# Altium footprint library PcbLib1.1.PcbLib: 79 footprints (part 5 of 5)
Each footprint in its own frame and in the unit in brackets; x right, y up, seen from the top. Pads: shape width x height; smd on the part's side, far side on the other; paste and mask are expansions set on the pad; w line width, h text height; cw(c..) or ccw(c..) is an arc to the next point about the centre after c.
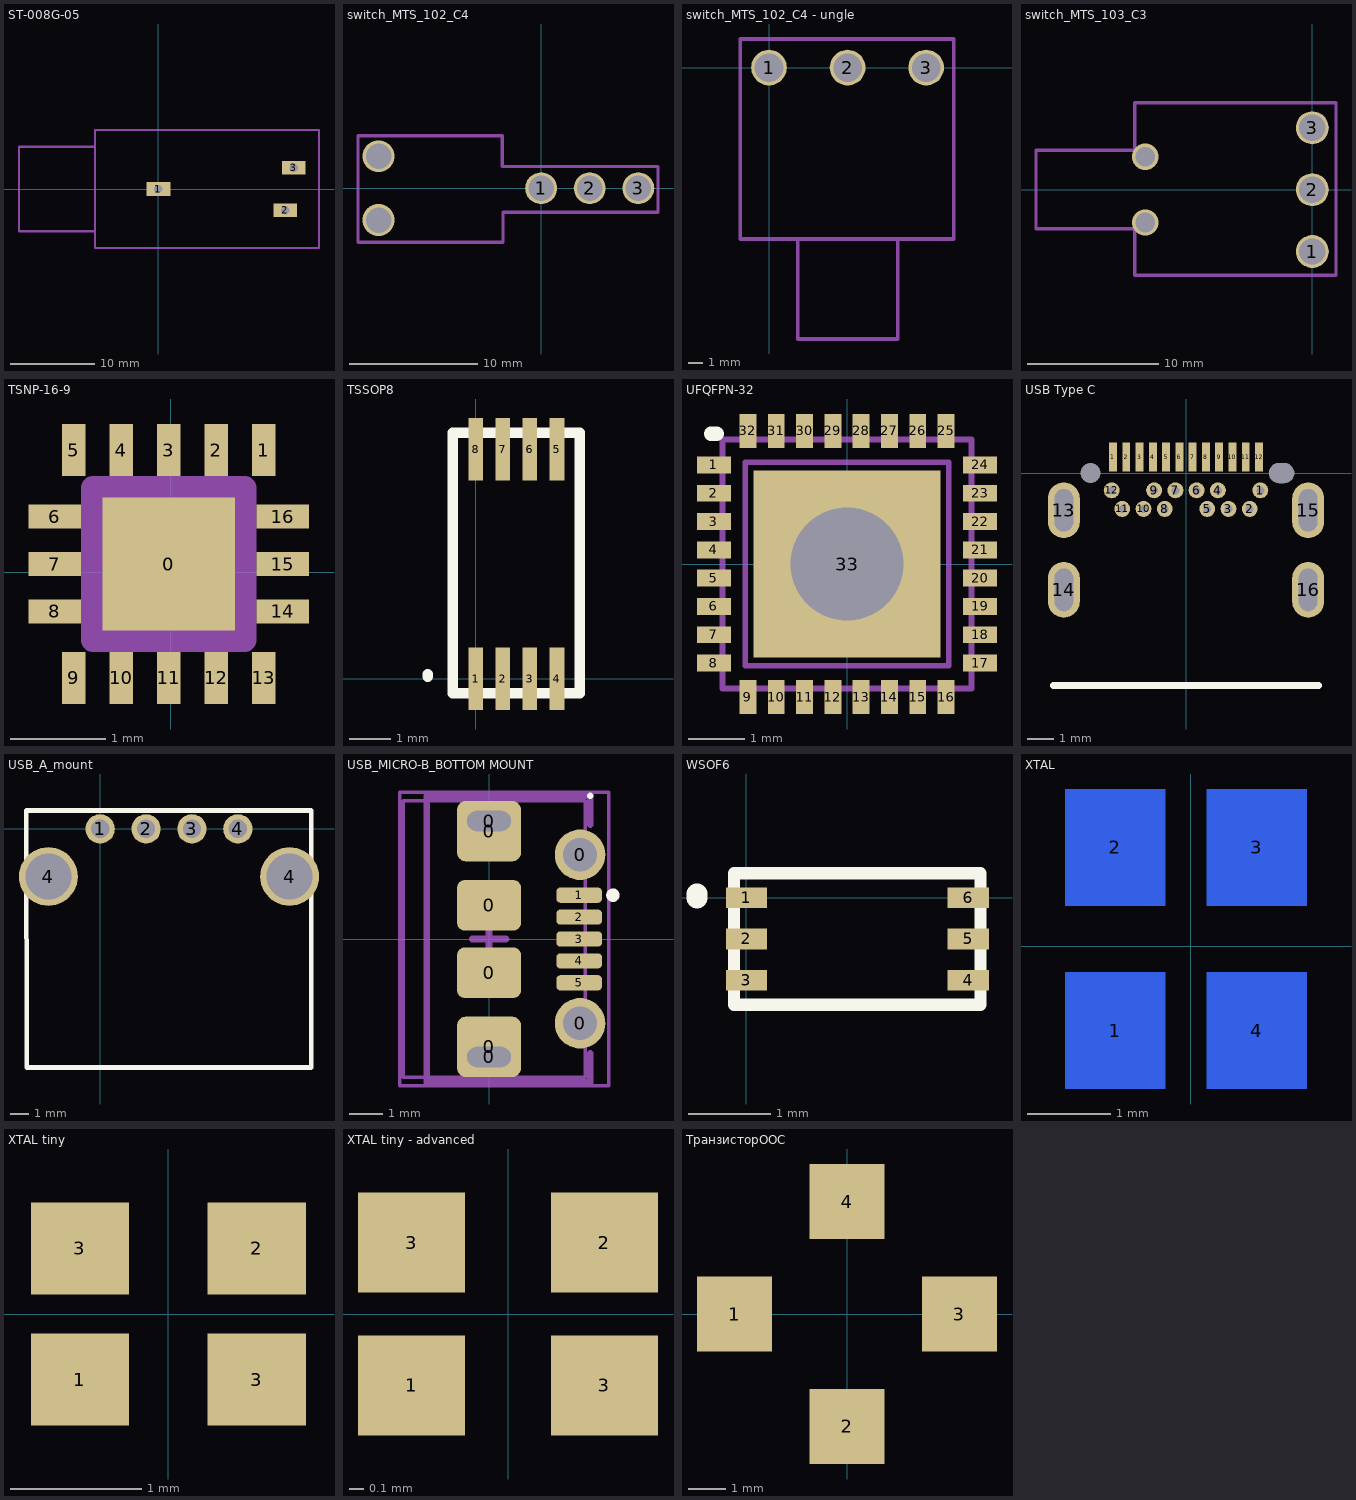
[diagram p4: the footprints below, top view; thin cyan lines are the x and y axes]

## ST-008G-05 [mm]
height 10
pads (3):
  rect 2.8x1.6 hole 1 square: 1(0,0) 2(15,-2.5) 3(16,2.5)
Mechanical 15:
  lines w0.254: -7.5,-5 -16.5,-5 -16.5,5 -7.5,5 ; -7.5,-7 19,-7 19,7 -7.5,7 -7.5,-7

## switch_MTS_102_C4 [mm]
height 13.2
pads (3):
  round 2.5 hole 2: 1(0,0) 2(3.8,0) 3(7.6,0)
via -12.7,-2.5 diameter 2.5 hole 2
via -12.7,2.5 diameter 2.5 hole 2
Mechanical 15:
  lines w0.25: -14.32,4 -14.32,-4.22 -2.99,-4.22 -2.99,-1.88 9.14,-1.88 9.14,1.29 9.14,1.69 -3.04,1.69 -3.04,4.1 -14.32,4.1

## switch_MTS_102_C4 - ungle [mm]
height 13.2
pads (3):
  round 2.5 hole 2: 1(0,0) 2(5.5,0) 3(11,0)
Mechanical 15:
  lines w0.25: 2,-12 2,-19 8,-19 9,-19 9,-12 ; -2,-12 -2,2 8.83,2 12.92,2 12.92,-12 -2,-12

## switch_MTS_103_C3 [mm]
height 8
pads (3):
  round 2.5 hole 2: 1(0,-4.7) 2(0,0) 3(0,4.7)
via -12.7,-2.5 diameter 2 hole 1.5
via -12.7,2.5 diameter 2 hole 1.5
Mechanical 15:
  lines w0.25: -21,-2.97 -21,3 -13.5,3 -13.5,6.6 -11.5,6.6 -7,6.6 -3.04,6.6 1.8,6.6 1.8,2.75 1.8,-6.5 -2.79,-6.5 -13.5,-6.5 -13.5,-2.97 -21,-2.97

## TSNP-16-9 [mm]
height 1
pads (17):
  rect 1.4x1.4 smd: 0(-0.019,0.087)
  rect 0.25x0.55 smd: 1(0.981,1.287) 2(0.481,1.287) 3(-0.019,1.287) 4(-0.519,1.287) 5(-1.019,1.287) 9(-1.019,-1.113) 10(-0.519,-1.113) 11(-0.019,-1.113) 12(0.481,-1.113) 13(0.981,-1.113)
  rect 0.55x0.25 smd: 6(-1.219,0.587) 7(-1.219,0.087) 8(-1.219,-0.413) 14(1.181,-0.413) 15(1.181,0.087) 16(1.181,0.587)
Top Solder:
  rectangle: -1.596,-1.49 1.563,1.664
Mechanical 15:
  lines w0.25: -0.819,-0.713 -0.819,0.887 0.781,0.887 0.781,-0.713 -0.819,-0.713

## TSSOP8 [mm]
height 1
pads (8):
  rect 0.35x1.5 smd: 1(0,0) 2(0.65,0) 3(1.3,0) 4(1.95,0) 5(1.95,5.5) 6(1.3,5.5) 7(0.65,5.5) 8(0,5.5)
Top Overlay:
  lines w0.254: -1.15,0.05 -1.15,0.1 ; -0.55,-0.35 -0.55,5.9 2.5,5.9 2.5,-0.35 -0.55,-0.35
Top Solder:
  rectangle: 0,4.65 1.9,6.35
  rectangle: 0.2,-0.85 2,0.85

## UFQFPN-32 [mm]
pads (33):
  rect 0.6x0.3 smd: 1(-2.35,1.75) 2(-2.35,1.25) 3(-2.35,0.75) 4(-2.35,0.25) 5(-2.35,-0.25) 6(-2.35,-0.75) 7(-2.35,-1.25) 8(-2.35,-1.75) 17(2.35,-1.75) 18(2.35,-1.25) 19(2.35,-0.75) 20(2.35,-0.25) 21(2.35,0.25) 22(2.35,0.75) 23(2.35,1.25) 24(2.35,1.75)
  rect 0.3x0.6 smd: 9(-1.75,-2.35) 10(-1.25,-2.35) 11(-0.75,-2.35) 12(-0.25,-2.35) 13(0.25,-2.35) 14(0.75,-2.35) 15(1.25,-2.35) 16(1.75,-2.35) 25(1.75,2.35) 26(1.25,2.35) 27(0.75,2.35) 28(0.25,2.35) 29(-0.25,2.35) 30(-0.75,2.35) 31(-1.25,2.35) 32(-1.75,2.35)
  rect 3.3x3.3 hole 2: 33(0,0)
Top Overlay:
  lines w0.25: -2.4,2.3 -2.3,2.3
Mechanical 15:
  lines w0.1: -0.2,0 0.2,0 ; 0,-0.2 0,0.2 ; -2.2,-2.2 2.2,-2.2 2.2,2.2 -2.2,2.2 -2.2,-2.2 ; -1.8,-1.8 1.8,-1.8 1.8,1.8 -1.8,1.8 -1.8,-1.8

## USB Type C [mm]
height 4
pads (30):
  rect 0.3x1.1 smd: 1(-2.75,0.6) 2(-2.25,0.6) 3(-1.75,0.6) 4(-1.25,0.6) 5(-0.75,0.6) 6(-0.25,0.6) 7(0.25,0.6) 8(0.75,0.6) 9(1.25,0.6) 10(1.75,0.6) 11(2.25,0.6) 12(2.75,0.6)
  round 0.6 hole 0.3: 1(2.8,-0.65) 2(2.4,-1.35) 3(1.6,-1.35) 4(1.2,-0.65) 5(0.8,-1.35) 6(0.4,-0.65) 7(-0.4,-0.65) 8(-0.8,-1.35) 9(-1.2,-0.65) 10(-1.6,-1.35) 11(-2.4,-1.35) 12(-2.8,-0.65)
  oval 1.2x2.1 hole 0.7 slot 1.6 at 90 deg: 13(-4.6,-1.4) 14(-4.6,-4.4) 15(4.6,-1.4) 16(4.6,-4.4)
  rrect50% 0x0 hole 0.75 slot 0.95 at 0 deg unplated: 13(3.6,0)
  round 0 hole 0.75 unplated: 14(-3.6,0)
Top Overlay:
  lines w0.254: -5,-8 5,-8

## USB_A_mount [mm]
height 5
pads (6):
  round 1.6 hole 1: 1(0,0) 2(2.5,0) 3(5,0) 4(7.5,0)
  round 3.2 hole 2.5: 4(-2.82,-2.6) 4(10.32,-2.6)
Top Overlay:
  lines w0.25: -4.019,1 11.5,1 11.5,-13 -3.987,-13 -4.019,1

## USB_MICRO-B_BOTTOM MOUNT [mm]
pads (13):
  oval 1.9x1.2 hole 0.6 slot 1.3 at 0 deg: 0(0,-3.5) 0(0,3.5)
  rrect30% 1.9x1.8 smd paste+0: 0(0,-3.2) 0(0,3.2)
  rrect30% 1.9x1.5 smd paste+0: 0(0,-1) 0(0,1)
  round 1.5 hole 1: 0(2.7,-2.5) 0(2.7,2.5)
  rrect50% 1.35x0.45 smd: 1(2.675,1.3) 2(2.675,0.65) 3(2.675,0) 4(2.675,-0.65) 5(2.675,-1.3)
Top Overlay:
  circle w0.2: c3.675,1.3 r0.1
  lines w0.2: 3,4.25 3,4.25
Top Solder:
  rectangle: 2.2,-1.81 3.2,-1.56
  rectangle: 2.2,1.57 3.2,1.82
Mechanical 13:
  lines w0.1: -2.55,-4.1 2.85,-4.1 2.85,4.1 -2.55,4.1 -2.55,-4.1
  text "_PCB_" at -1.7,-1.3 h0.45
Mechanical 15:
  lines w0.1: -2.65,-4.35 -2.65,4.35 3.55,4.35 3.55,-4.35 -2.65,-4.35
  lines w0.2: -0.5,0 0.5,0 ; 0,-0.5 0,0.5 ; 3,-3.4 3,-4.25 -1.85,-4.25 -1.85,4.25 3,4.25 3,3.4
3D body "1050170001.STEP": height 2.7, standoff -0.6, extent -2.55,-4.1 2.85,4.1

## WSOF6 [mm]
height 1
pads (6):
  rect 0.5x0.25 smd: 1(0,0) 2(0,-0.5) 3(0,-1) 4(2.7,-1) 5(2.7,-0.5) 6(2.7,0)
Top Overlay:
  lines w0.15: -0.15,-1.3 -0.15,0.3 2.85,0.3 2.85,-1.3 -0.15,-1.3
  lines w0.254: -0.6,0 -0.6,0.05
Top Solder:
  rectangle: -0.35,-0.8 0.35,-0.2
  rectangle: 2.35,-0.8 3.05,-0.2

## XTAL [mm]
height 1
pads (4):
  rect 1.2x1.4 smd far side: 1(-0.909,-1.01) 2(-0.909,1.19) 3(0.791,1.19) 4(0.791,-1.01)
Bottom Overlay:
  lines w0.2: -1.31,-0.159 -1.307,0.341 ; -0.17,1.687 0.044,1.687 ; -0.154,-1.51 0.023,-1.51 ; 1.183,-0.175 1.183,0.35

## XTAL tiny [mm]
height 0.7
pads (4):
  rect 0.75x0.7 smd: 1(-0.675,-0.5) 2(0.675,0.5) 3(-0.675,0.5) 3(0.675,-0.5)
Top Solder:
  rectangle: 0.2,-0.25 1.15,0.25
  rectangle: -1.14,-0.25 -0.2,0.25

## XTAL tiny - advanced [mm]
height 0.7
pads (4):
  rect 0.75x0.7 smd: 1(-0.675,-0.5) 2(0.675,0.5) 3(-0.675,0.5) 3(0.675,-0.5)

## ТранзисторООС [mm]
pads (4):
  rect 2x2 smd: 1(-3,0) 2(0,-3) 3(3,0) 4(0,3)